# Altium footprint library DFNWB2x2-6L.PcbLib: 1 footprints
Each footprint in its own frame and in the unit in brackets; x right, y up, seen from the top. Pads: shape width x height; smd on the part's side, far side on the other; paste and mask are expansions set on the pad; w line width, h text height; cw(c..) or ccw(c..) is an arc to the next point about the centre after c.
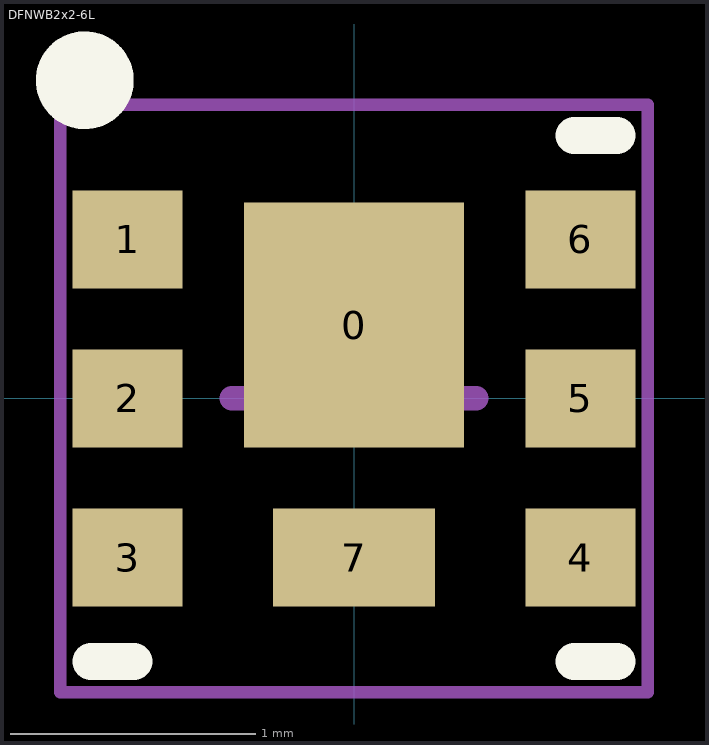
[diagram p0: the footprint, top view; thin cyan lines are the x and y axes]

## DFNWB2x2-6L [mm]
height 0.75
pads (8):
  rect 0.9x1 smd: 0(0,0.3)
  rect 0.45x0.4 smd: 1(-0.925,0.65) 2(-0.925,0) 3(-0.925,-0.65) 4(0.925,-0.65) 5(0.925,0) 6(0.925,0.65)
  rect 0.66x0.4 smd: 7(0,-0.65)
Top Overlay:
  circle w0.2: c-1.1,1.3 r0.1
  lines w0.152: -1.075,-1.075 -0.9,-1.075 ; 0.9,-1.075 1.075,-1.075 ; 0.9,1.075 1.075,1.075
Mechanical 15:
  lines w0.05: -1.2,-1.2 -1.2,1.2 1.2,1.2 1.2,-1.2 -1.2,-1.2
  lines w0.1: -0.5,0 0.5,0
3D body: height 0.75, standoff -0.02, extent -1.01,-1 1.01,1